# EAGLE library part KSZ8895 (library kmod-testing)
Micrel KSZ8895 5-port ethernet switch Couple of different variants: MQ RQ FQ MQX RQX FQX ML ML has different package FQ/FQX have fiber rather than copper support MQ/RQ are now "legacy" products and are EOL at digikey That leaves MQX and RQX as the best options.
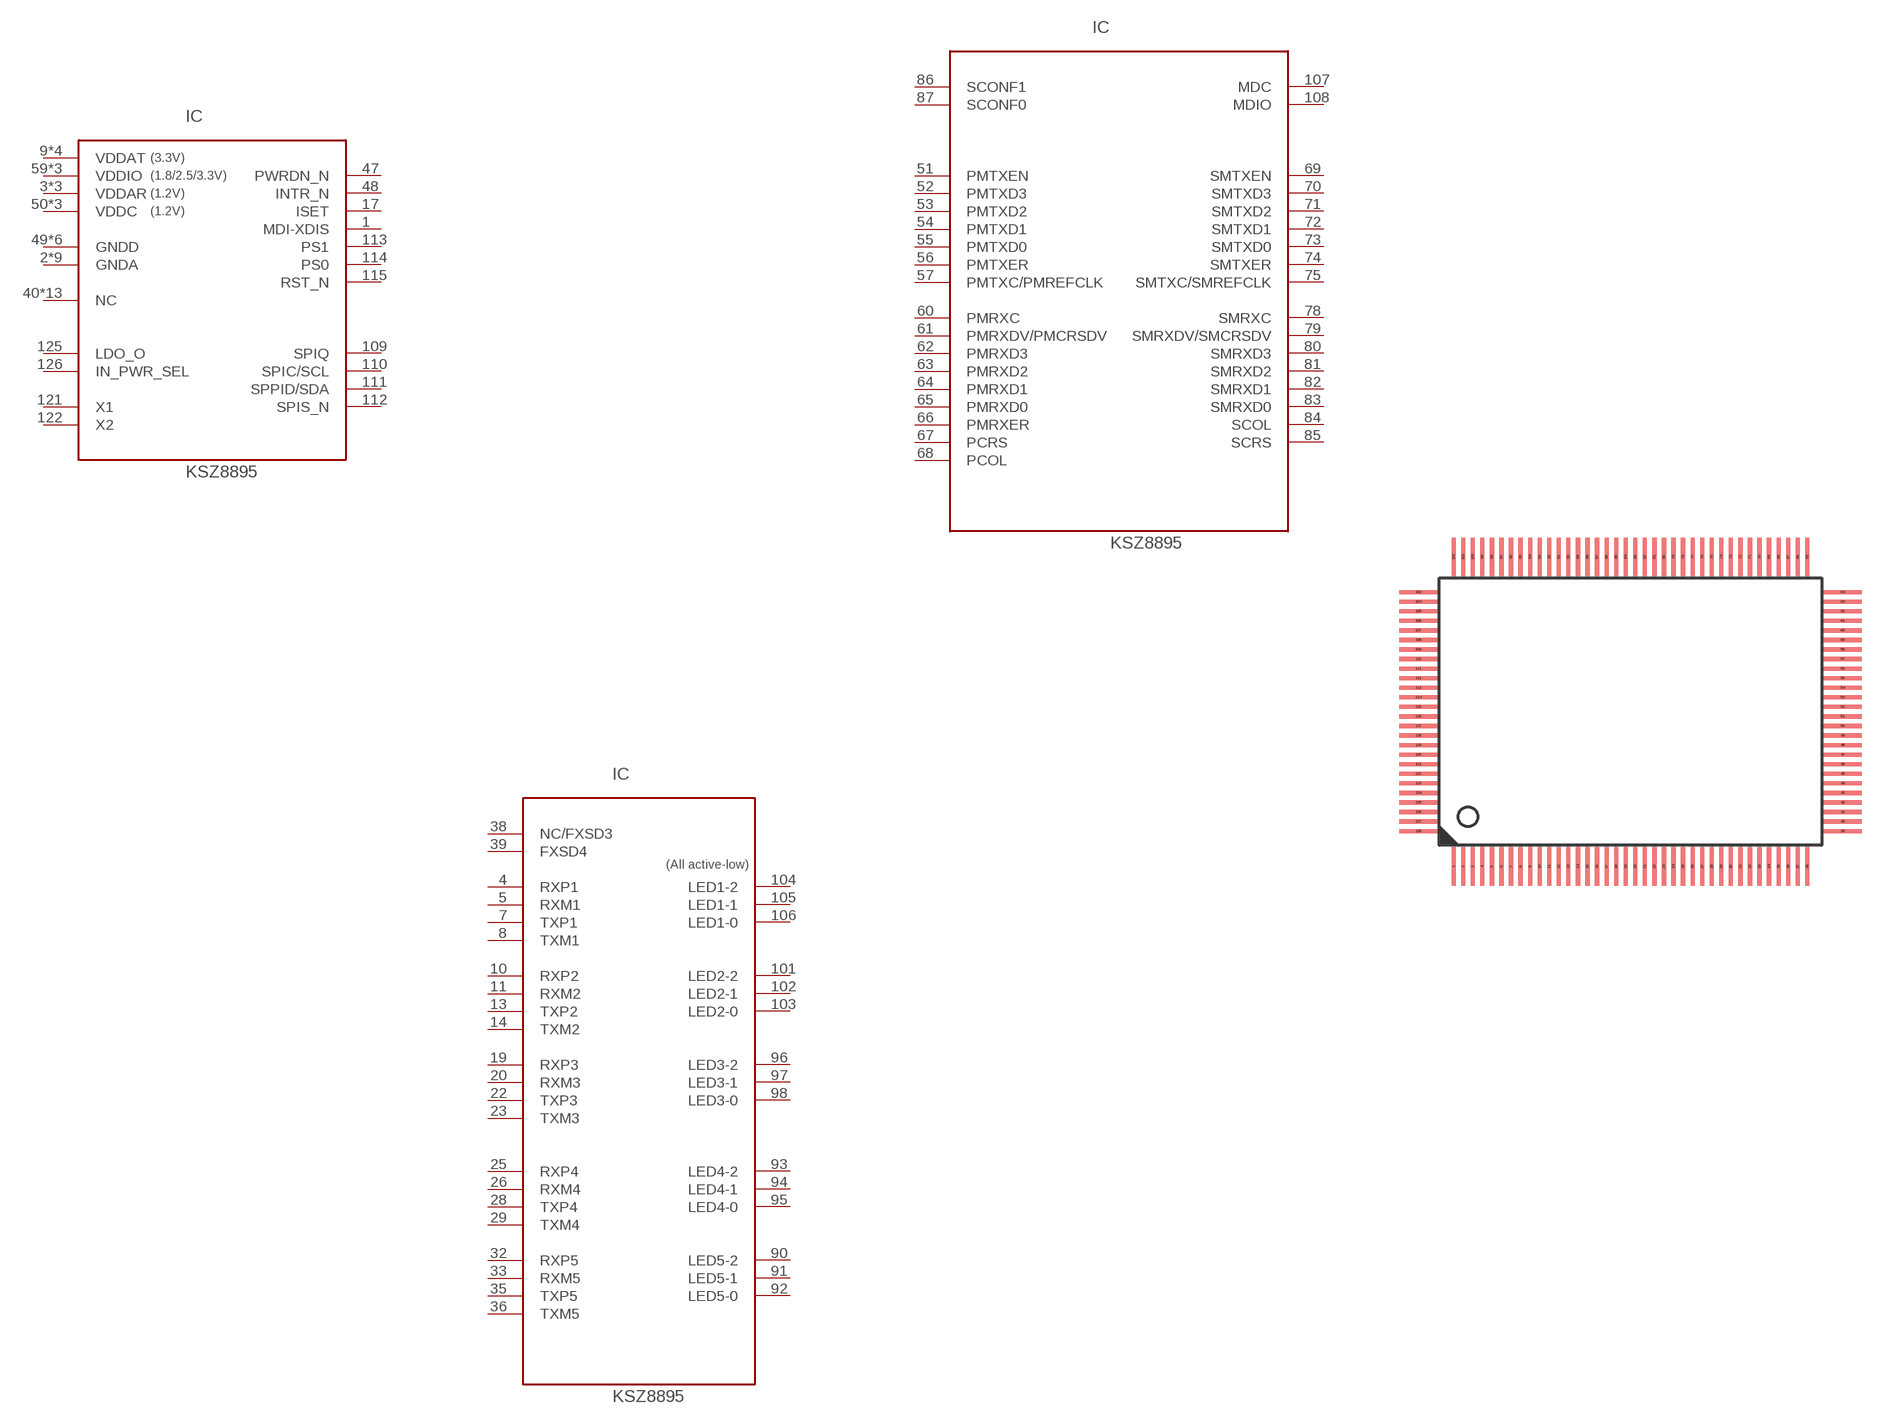
[diagram p14: symbol with the pads of PQFP-128; footprint PQFP-128]

Designator prefix IC

## KSZ8895  [PQFP-128]
1  MDI-XDIS
2  GNDA
3  VDDAR
4  RXP1
5  RXM1
6  GNDA
7  TXP1
8  TXM1
9  VDDAT
10  RXP2
11  RXM2
12  GNDA
13  TXP2
14  TXM2
15  VDDAR
16  GNDA
17  ISET
18  VDDAT
19  RXP3
20  RXM3
21  GNDA
22  TXP3
23  TXM3
24  VDDAT
25  RXP4
26  RXM4
27  GNDA
28  TXP4
29  TXM4
30  GNDA
31  VDDAR
32  RXP5
33  RXM5
34  GNDA
35  TXP5
36  TXM5
37  VDDAT
38  NC/FXSD3
39  FXSD4
40  NC
41  NC
42  NC
43  NC
44  NC
45  NC
46  NC
47  PWRDN_N
48  INTR_N
49  GNDD
50  VDDC
51  PMTXEN
52  PMTXD3
53  PMTXD2
54  PMTXD1
55  PMTXD0
56  PMTXER
57  PMTXC/PMREFCLK
58  GNDD
59  VDDIO
60  PMRXC
61  PMRXDV/PMCRSDV
62  PMRXD3
63  PMRXD2
64  PMRXD1
65  PMRXD0
66  PMRXER
67  PCRS
68  PCOL
69  SMTXEN
70  SMTXD3
71  SMTXD2
72  SMTXD1
73  SMTXD0
74  SMTXER
75  SMTXC/SMREFCLK
76  GNDD
77  VDDIO
78  SMRXC
79  SMRXDV/SMCRSDV
80  SMRXD3
81  SMRXD2
82  SMRXD1
83  SMRXD0
84  SCOL
85  SCRS
86  SCONF1
87  SCONF0
88  GNDD
89  VDDC
90  LED5-2
91  LED5-1
92  LED5-0
93  LED4-2
94  LED4-1
95  LED4-0
96  LED3-2
97  LED3-1
98  LED3-0
99  GNDD
100  VDDIO
101  LED2-2
102  LED2-1
103  LED2-0
104  LED1-2
105  LED1-1
106  LED1-0
107  MDC
108  MDIO
109  SPIQ
110  SPIC/SCL
111  SPPID/SDA
112  SPIS_N
113  PS1
114  PS0
115  RST_N
116  GNDD
117  VDDC
118  NC
119  NC
120  NC
121  X1
122  X2
123  NC
124  NC
125  LDO_O
126  IN_PWR_SEL
127  GNDA
128  NC

## Footprint PQFP-128 (pad centres in mm)
128-pin PQFP (14x20) 0.5mm-pitch package Based off of http://www.micrel.com/_Packages/PQFP14x20-128LD-PL-1.pdf Ex for these parts: http://www.micrel.com/_PDF/Ethernet/datasheets/KSZ8895MQX_RQX_FQX_ML.pdf Also seems to be valid against this http://www.idt.com/package/px128?order=title&sort=desc I think this might be a standard-ish size? Seeing mostly micrel parts with it though.
smd 0.22 x 2: 1 -9.25,-8.1; 2 -8.75,-8.1; 3 -8.25,-8.1; 4 -7.75,-8.1; 5 -7.25,-8.1; 6 -6.75,-8.1; 7 -6.25,-8.1; 8 -5.75,-8.1; 9 -5.25,-8.1; 10 -4.75,-8.1; 11 -4.25,-8.1; 12 -3.75,-8.1; 13 -3.25,-8.1; 14 -2.75,-8.1; 15 -2.25,-8.1; 16 -1.75,-8.1; 17 -1.25,-8.1; 18 -0.75,-8.1; 19 -0.25,-8.1; 20 0.25,-8.1; 21 0.75,-8.1; 22 1.25,-8.1; 23 1.75,-8.1; 24 2.25,-8.1; 25 2.75,-8.1; 26 3.25,-8.1; 27 3.75,-8.1; 28 4.25,-8.1; 29 4.75,-8.1; 30 5.25,-8.1; 31 5.75,-8.1; 32 6.25,-8.1; 33 6.75,-8.1; 34 7.25,-8.1; 35 7.75,-8.1; 36 8.25,-8.1; 37 8.75,-8.1; 38 9.25,-8.1; 65 9.25,8.1; 66 8.75,8.1; 67 8.25,8.1; 68 7.75,8.1; 69 7.25,8.1; 70 6.75,8.1; 71 6.25,8.1; 72 5.75,8.1; 73 5.25,8.1; 74 4.75,8.1; 75 4.25,8.1; 76 3.75,8.1; 77 3.25,8.1; 78 2.75,8.1; 79 2.25,8.1; 80 1.75,8.1; 81 1.25,8.1; 82 0.75,8.1; 83 0.25,8.1; 84 -0.25,8.1; 85 -0.75,8.1; 86 -1.25,8.1; 87 -1.75,8.1; 88 -2.25,8.1; 89 -2.75,8.1; 90 -3.25,8.1; 91 -3.75,8.1; 92 -4.25,8.1; 93 -4.75,8.1; 94 -5.25,8.1; 95 -5.75,8.1; 96 -6.25,8.1; 97 -6.75,8.1; 98 -7.25,8.1; 99 -7.75,8.1; 100 -8.25,8.1; 101 -8.75,8.1; 102 -9.25,8.1
smd 2 x 0.22: 39 11.1,-6.25; 40 11.1,-5.75; 41 11.1,-5.25; 42 11.1,-4.75; 43 11.1,-4.25; 44 11.1,-3.75; 45 11.1,-3.25; 46 11.1,-2.75; 47 11.1,-2.25; 48 11.1,-1.75; 49 11.1,-1.25; 50 11.1,-0.75; 51 11.1,-0.25; 52 11.1,0.25; 53 11.1,0.75; 54 11.1,1.25; 55 11.1,1.75; 56 11.1,2.25; 57 11.1,2.75; 58 11.1,3.25; 59 11.1,3.75; 60 11.1,4.25; 61 11.1,4.75; 62 11.1,5.25; 63 11.1,5.75; 64 11.1,6.25; 103 -11.1,6.25; 104 -11.1,5.75; 105 -11.1,5.25; 106 -11.1,4.75; 107 -11.1,4.25; 108 -11.1,3.75; 109 -11.1,3.25; 110 -11.1,2.75; 111 -11.1,2.25; 112 -11.1,1.75; 113 -11.1,1.25; 114 -11.1,0.75; 115 -11.1,0.25; 116 -11.1,-0.25; 117 -11.1,-0.75; 118 -11.1,-1.25; 119 -11.1,-1.75; 120 -11.1,-2.25; 121 -11.1,-2.75; 122 -11.1,-3.25; 123 -11.1,-3.75; 124 -11.1,-4.25; 125 -11.1,-4.75; 126 -11.1,-5.25; 127 -11.1,-5.75; 128 -11.1,-6.25